# Altium schematic symbol library USB2.0_HUB_Diode.SchLib: 3 symbols
Pins are listed as number, name and electrical type; pins without a type are passive.

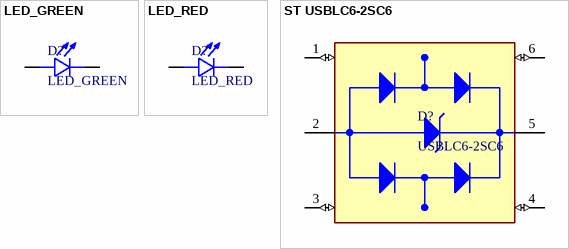
[diagram p0: symbols LED_GREEN to ST USBLC6-2SC6]

## LED_GREEN
designator D?
Green 535nm LED Indication - Discrete 2.6V~3.2V 0805; Manufacturer: TONYU; Manufacturer Part Number: DY-S2012508UGC-T5-3T-03; LCSC Part Number: C7280944; Package: 0805; ComponentLink1Description: Digikey Link; ComponentLink2Description: LCSC Link; ComponentLink2URL: https://www.lcsc.com/product-detail/C7280944.html?spm=wm.fly.bg.2.xh&lcsc_vid=ElNWVwADR1BcUgADEwJfBlBQQ1hZBQcDEVVXV1VQE1kxVlNRQlFYU1JXRlJZVTsOAxUeFF5JWBYZEEoKFBINSQcJGk4%3D; Mounting Type: SMD
footprint LED_0805
pins: A, C

## LED_RED
designator D?
LED RED WATER CLEAR 0805 SMD; Manufacturer: Guiguang light; Manufacturer Part Number: GL0805UR01; LCSC Part Number: C51933307; Package: 0805; ComponentLink1Description: Digikey Link; ComponentLink2Description: LCSC Link; ComponentLink2URL: https://www.lcsc.com/product-detail/C51933307.html; Mounting Type: SMD
footprint LED_0805
pins: A, C

## ST USBLC6-2SC6
designator D?, comment USBLC6-2SC6
17VC Clamp 5A Ipp ESD DIODE SOT-23-6L; Manufacturer: ST; Manufacturer Part Number: USBLC6-2SC6; LCSC Part Number: C7519; Package: SOT-23-6L; ComponentLink1Description: Digikey Link; ComponentLink2Description: LCSC Link; ComponentLink2URL: https://www.lcsc.com/product-detail/C7519.html?s_z=n_usblc6-2sc6&spm=wm.ssy.bg.0.xh&lcsc_vid=QlAIX1RQQQJfX1VRTwcNAQJXTlRaUQBVEQBYAwJfFFcxVlNRQ1VbUVRUTldbUTsOAxUeFF5JWBYZEEoKFBINSQcJGk4%3D; Mounting Type: SMD
footprint USBLC6-2SC6_SOT-23-6L
pins: 1 I/O1_IN (io), 2 GND (power), 3 I/O2_IN (io), 4 I/O2_OUT (io), 5 VBUS (power), 6 I/O1_OUT (io)